# Altium footprint library SnapEDApcb.PcbLib: 1 footprints
Each footprint in its own frame and in the unit in brackets; x right, y up, seen from the top. Pads: shape width x height; smd on the part's side, far side on the other; paste and mask are expansions set on the pad; w line width, h text height; cw(c..) or ccw(c..) is an arc to the next point about the centre after c.
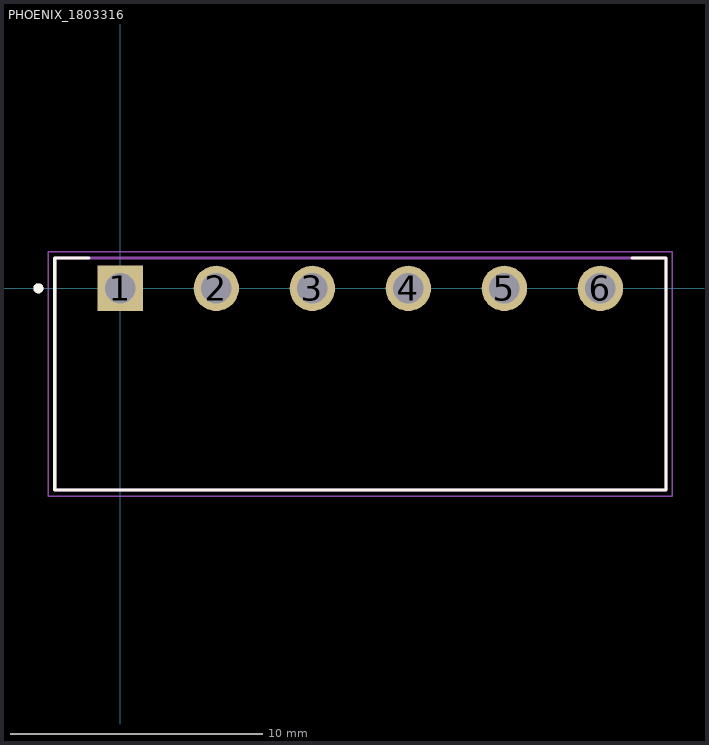
[diagram p0: the footprint, top view; thin cyan lines are the x and y axes]

## PHOENIX_1803316 [mm]
pads (6):
  rect 1.8x1.8 hole 1.2: 1(0,0)
  round 1.8 hole 1.2: 2(3.81,0) 3(7.62,0) 4(11.43,0) 5(15.24,0) 6(19.05,0)
Top Overlay:
  circle w0.2: c-3.25,0 r0.1
  lines w0.127: -1.25,1.2 -2.6,1.2 -2.6,-8 21.65,-8 21.65,1.2 20.3,1.2
Mechanical 13:
  circle w0.2: c-3.25,0 r0.1
  lines w0.127: -2.6,-8 21.65,-8 21.65,1.2 -2.6,1.2 -2.6,-8
Mechanical 15:
  lines w0.05: -2.85,-8.25 -2.85,1.45 21.9,1.45 21.9,-8.25 -2.85,-8.25